# EAGLE library part YM3012 (library ym3012)
YM3012
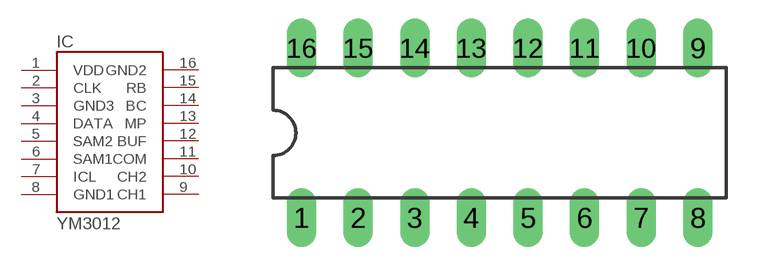
[diagram p0: symbol with the pads of DIL16; footprint DIL16]

Designator prefix IC

## YM3012  [DIL16]
1  VDD
2  CLK
3  GND3
4  DATA
5  SAM2
6  SAM1
7  ICL
8  GND1
9  CH1
10  CH2
11  COM
12  BUF
13  MP
14  BC
15  RB
16  GND2

## Footprint DIL16 (pad centres in mm)
Dual In Line Package
drill 0.813 long: 1 -8.89,-3.81; 2 -6.35,-3.81; 3 -3.81,-3.81; 4 -1.27,-3.81; 5 1.27,-3.81; 6 3.81,-3.81; 7 6.35,-3.81; 8 8.89,-3.81; 9 8.89,3.81; 10 6.35,3.81; 11 3.81,3.81; 12 1.27,3.81; 13 -1.27,3.81; 14 -3.81,3.81; 15 -6.35,3.81; 16 -8.89,3.81